# EAGLE library part DRIVER_DUAL_MC33926 (library alte_piese)
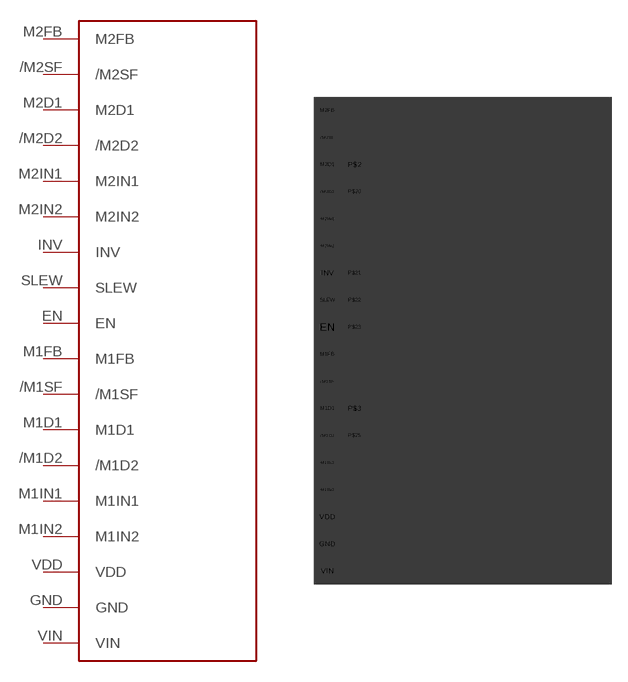
[diagram p1: symbol with the pads of DRIVER_DUAL_MC33926; footprint DRIVER_DUAL_MC33926]

Designator prefix -

## DRIVER_DUAL_MC33926  [DRIVER_DUAL_MC33926]
/M1D2  /M1D2
/M1SF  /M1SF
/M2D2  /M2D2
/M2SF  /M2SF
EN  EN
GND  GND  pwr
INV  INV
M1D1  M1D1
M1FB  M1FB
M1IN1  M1IN1
M1IN2  M1IN2
M2D1  M2D1
M2FB  M2FB
M2IN1  M2IN1
M2IN2  M2IN2
SLEW  SLEW
VDD  VDD  pwr
VIN  VIN  pwr

## Footprint DRIVER_DUAL_MC33926 (pad centres in mm)
drill 0.6 round: /M1D2 1.27,13.97; /M1SF 1.27,19.05; /M2D2 1.27,36.83; /M2SF 1.27,41.91; EN 1.27,24.13; INV 1.27,29.21; M1D1 1.27,16.51; M1FB 1.27,21.59; M1IN1 1.27,11.43; M1IN2 1.27,8.89; M2D1 1.27,39.37; M2FB 1.27,44.45; M2IN1 1.27,34.29; M2IN2 1.27,31.75; P$20 3.81,36.83; P$21 3.81,29.21; P$22 3.81,26.67; P$23 3.81,24.13; P$25 3.81,13.97; SLEW 1.27,26.67; VDD 1.27,6.35; VIN 1.27,1.27
drill 0.6 square: GND 1.27,3.81; P$2 3.81,39.37; P$3 3.81,16.51
hole 1.3 at 26.67,44.45
hole 1.3 at 26.67,1.27